# EAGLE library part 2X5_HEADER (library Railstars)
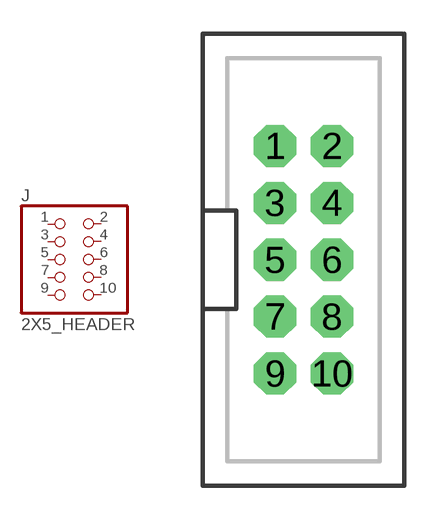
[diagram p2: symbol with the pads of 2X5_SHROUD; footprint 2X5_SHROUD]

Designator prefix J

## 2X5_HEADERSHROUDED  [2X5_SHROUD]
1  1  pas
2  2  pas
3  3  pas
4  4  pas
5  5  pas
6  6  pas
7  7  pas
8  8  pas
9  9  pas
10  10  pas

## Footprint 2X5_SHROUD (pad centres in mm)
drill 1.016 pad 1.88 octagon: 1 -1.27,5.08; 2 1.27,5.08; 3 -1.27,2.54; 4 1.27,2.54; 5 -1.27,0; 6 1.27,0; 7 -1.27,-2.54; 8 1.27,-2.54; 9 -1.27,-5.08; 10 1.27,-5.08